# Altium schematic symbol library ESP_helper.SchLib: 19 symbols
Pins are listed as number, name and electrical type; pins without a type are passive.

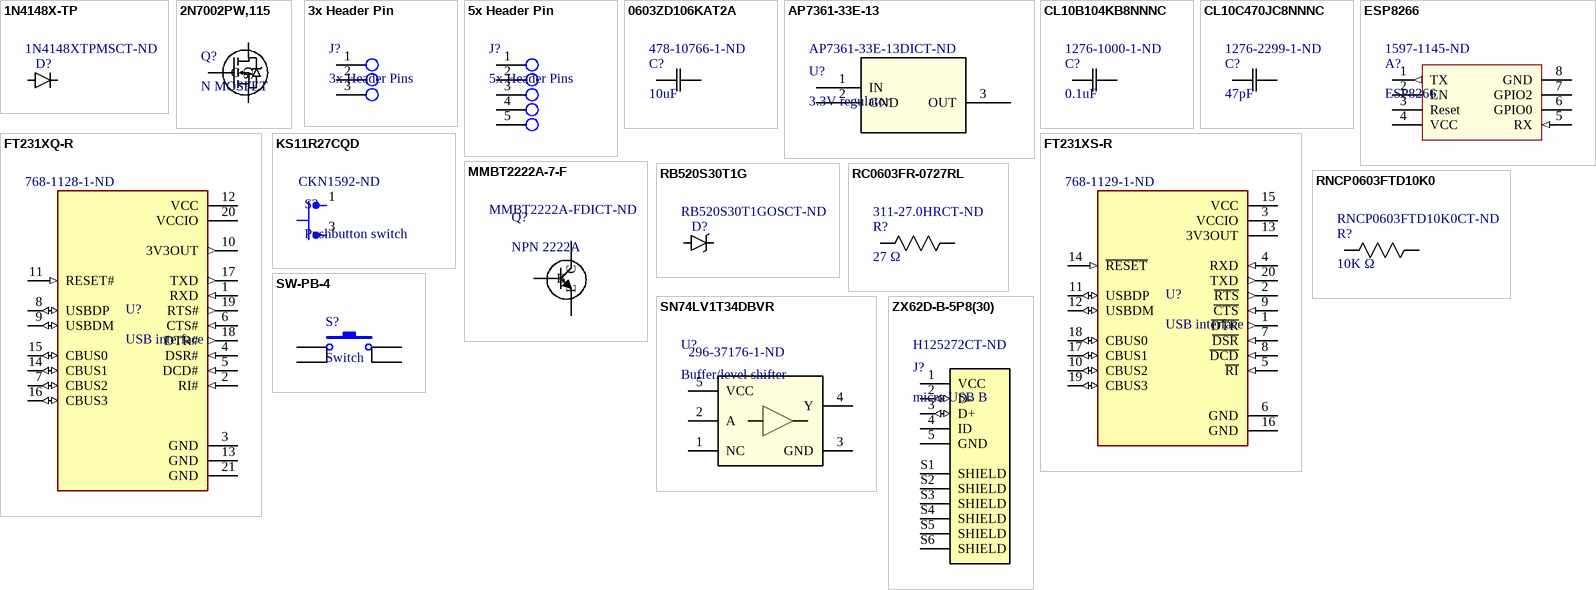
[diagram p0: symbols 1N4148X-TP to ZX62D-B-5P8(30)]

## 1N4148X-TP
designator D?, comment Supplier Part Number 1: 1N4148XTPMSCT-ND  (hidden comment: Diode)
DIODE GEN PURP 75V 150MA SOD523; MP: BAT20JFILM; MF: STMicroelectronics; Package: SOD-323 STMicroelectronics; SnapEDA_Link: https://www.snapeda.com/parts/BAT20JFILM/STMicroelectronics/view-part/110314/?ref=snap; Value: *; Availability: Unavailable; Price: None; Supplier 1: Digi-Key
footprint SOD-523
pins: A, C

## 2N7002PW,115
designator Q?, comment N MOSFET
MOSFET N-CH 60V 0.31A SOT323; Manufacturer_Part_Number: 2N7002,215; Vendor: NXP; Built_By: EMA_UL_Team; SourceLibrary: NXP_2011-01-01; Type: DEV; Copyright: Copyright (C) 2018 Accelerated Designs. All rights reserved; RefDes: RefDes; Supplier 1: Digi-Key; Supplier Part Number 1: 1727-4793-1-ND
footprint SOT-323
pins: 1 G, 2 S, 3 D

## 3x Header Pin
designator J?, comment 3x Header Pins
CONN HEADER VERT 5POS 2.54MM; Manufacturer_Part_Number: 77311-818-36LF; Vendor: Amphenol; Built_By: EMA_UL_Team; SourceLibrary: Amphenol_2013-08-06_Bergstik_1Row_77311; Copyright: Copyright (C) 2018 Accelerated Designs. All rights reserved; RefDes: RefDes; Type: DEV; Value: Value
footprint 3 HEADER PIN 90 DEG
pins: 1, 2, 3

## 5x Header Pin
designator J?, comment 5x Header Pins
CONN HEADER VERT 5POS 2.54MM; Manufacturer_Part_Number: 77311-818-36LF; Vendor: Amphenol; Built_By: EMA_UL_Team; SourceLibrary: Amphenol_2013-08-06_Bergstik_1Row_77311; Copyright: Copyright (C) 2018 Accelerated Designs. All rights reserved; RefDes: RefDes; Type: DEV; Value: Value
footprint 5 HEADER PIN
pins: 1, 2, 3, 4, 5

## 0603ZD106KAT2A
designator C?, comment 10uF  Supplier Part Number 1: 478-10766-1-ND
CAP CER 10UF 10V X5R 0603; Manufacturer_Part_Number: CC0805KRX7R9BB104; Vendor: Yageo; Built_By: EMA_UL_Team; Type: DEV; Copyright: Copyright (C) 2018 Accelerated Designs. All rights reserved; RefDes: RefDes; Value: Value; Supplier 1: Digi-Key
footprint 0603
pins: 1, 2

## AP7361-33E-13
designator U?, comment 3.3V regulator  Supplier Part Number 1: AP7361-33E-13DICT-ND
IC REG LINEAR 3.3V 1A SOT223; Manufacturer_Part_Number: AP7361-33E-13; Vendor: Diodes Inc; Built_By: EMA_UL_Team; SourceLibrary: DIODESINC_2_2015-08-18; Copyright: Copyright (C) 2018 Accelerated Designs. All rights reserved; RefDes: RefDes; Type: DEV; Supplier 1: Digi-Key
footprint SOT-223
pins: 1 IN (power), 2 GND (power), 3 OUT (power)

## CL10B104KB8NNNC
designator C?, comment 0.1uF  Supplier Part Number 1: 1276-1000-1-ND
CAP CER 0.1UF 50V X7R 0603; Manufacturer_Part_Number: CC0805KRX7R9BB104; Vendor: Yageo; Built_By: EMA_UL_Team; Type: DEV; Copyright: Copyright (C) 2018 Accelerated Designs. All rights reserved; RefDes: RefDes; Value: Value; Supplier 1: Digi-Key
footprint 0603
pins: 1, 2

## CL10C470JC8NNNC
designator C?, comment 47pF  Supplier Part Number 1: 1276-2299-1-ND
CAP CER 47PF 100V C0G/NP0 0603; Manufacturer_Part_Number: CC0805KRX7R9BB104; Vendor: Yageo; Built_By: EMA_UL_Team; Type: DEV; Copyright: Copyright (C) 2018 Accelerated Designs. All rights reserved; RefDes: RefDes; Value: Value; Supplier 1: Digi-Key
footprint 0603
pins: 1, 2

## ESP8266
designator A?  Supplier Part Number 1: 1597-1145-ND
RX TXRX MODULE WIFI TRACE ANT TH; Supplier 1: Digi-Key
footprint ESP8266
pins: 1 TX (out), 2 EN, 3 Reset, 4 VCC (power), 5 RX (in), 6 GPIO0, 7 GPIO2, 8 GND (power)

## FT231XQ-R
designator U?, comment USB interface  Supplier Part Number 1: 768-1128-1-ND
USB Bridge, USB to UART USB 2.0 UART Interface 20-QFN; MP: FT231XQ-R; MF: FTDI, Future; Availability: Unavailable; SnapEDA_Link: https://www.snapeda.com/parts/FT231XQ-R/FTDI%2C%20Future%20Technology%20Devices%20International%20Ltd/view-part/227070/?ref=snap; Value: *; Package: QFN-20 FTDI; Price: None; Supplier 1: Digi-Key
footprint QFN40
pins: 1 RXD (in), 2 RI# (in), 3 GND (power), 4 DSR# (in), 5 DCD# (in), 6 CTS# (in), 7 CBUS2 (io), 8 USBDP (io), 9 USBDM (io), 10 3V3OUT (out), 11 RESET# (in), 12 VCC (power), 13 GND (power), 14 CBUS1 (io), 15 CBUS0 (io), 16 CBUS3 (io), 17 TXD (out), 18 DTR# (out), 19 RTS# (out), 20 VCCIO (power), 21 GND (power)

## FT231XS-R
designator U?, comment USB interface  Supplier Part Number 1: 768-1129-1-ND
USB Bridge, USB to UART USB 2.0 UART Interface 20-SSOP; MP: FT231XS-R; MF: FTDI,; Price: None; Package: SSOP-20 FTDI; Value: *; Availability: Unavailable; SnapEDA_Link: https://www.snapeda.com/parts/FT231XS-R/FTDI%2C%20Future%20Technology%20Devices%20International%20Ltd/view-part/48872/?ref=snap; Supplier 1: Digi-Key
footprint 20-SSOP
pins: 1 ~{DTR} (out), 2 ~{RTS} (out), 3 VCCIO (power), 4 RXD (in), 5 ~{RI} (in), 6 GND (power), 7 ~{DSR} (in), 8 ~{DCD} (in), 9 ~{CTS} (in), 10 CBUS2 (io), 11 USBDP (io), 12 USBDM (io), 13 3V3OUT (power), 14 ~{RESET} (in), 15 VCC (power), 16 GND (power), 17 CBUS1 (io), 18 CBUS0 (io), 19 CBUS3 (io), 20 TXD (out)

## KS11R27CQD
designator S?, comment Pushbutton switch  Supplier Part Number 1: CKN1592-ND
SWITCH PUSH SPST-NO 0.025A 50V; MF: C&K; MP: KS11R21CQD; Package: None; Value: *; Digi-Key_Part_Number: CKN4078-ND; Digi-Key_Purchase_URL: https://www.digikey.com/product-detail/en/c-k/KS11R21CQD/CKN4078-ND/332668?utm_source=snapeda&utm_medium=aggregator&utm_campaign=symbol; SnapEDA_Link: https://www.snapeda.com/parts/KS11R21CQD/C%26K/view-part/288209/?ref=snap; Supplier 1: Digi-Key
footprint KS11R21
pins: 1, 3

## MMBT2222A-7-F
designator Q?, comment NPN 2222A  Supplier Part Number 1: MMBT2222A-FDICT-ND
TRANS NPN 40V 0.6A SMD SOT23-3; MF: Diodes Inc.; MP: MMBT2222A-7-F; Package: SOT-23-3 Diodes Inc.; Digi-Key_Purchase_URL: https://www.digikey.in/product-detail/en/diodes-incorporated/MMBT2222A-7-F/MMBT2222A-FDICT-ND/815723?utm_source=snapeda&utm_medium=aggregator&utm_campaign=symbol; Value: *; SnapEDA_Link: https://www.snapeda.com/parts/MMBT2222A-7-F/Diodes%20Inc./view-part/229424/?ref=snap; Digi-Key_Part_Number: MMBT2222A-FDICT-ND; Supplier 1: Digi-Key
footprint SOT-23-3
pins: 1 B, 2 E, 3 C

## RB520S30T1G
designator D?, comment Supplier Part Number 1: RB520S30T1GOSCT-ND  (hidden comment: Diode, Schottky)
DIODE SCHOTTKY 30V 200MA SOD523; MP: BAT20JFILM; MF: STMicroelectronics; Package: SOD-323 STMicroelectronics; SnapEDA_Link: https://www.snapeda.com/parts/BAT20JFILM/STMicroelectronics/view-part/110314/?ref=snap; Value: *; Availability: Unavailable; Price: None; Supplier 1: Digi-Key
footprint SOD-523
pins: A, C

## RC0603FR-0727RL
designator R?, comment 27 Ω  Supplier Part Number 1: 311-27.0HRCT-ND
RES SMD 27 OHM 1% 1/10W 0603; Manufacturer_Part_Number: RC0805FR-0710KL; Vendor: Yageo; Built_By: EMA_UL_Team; Copyright: Copyright (C) 2018 Accelerated Designs. All rights reserved; RefDes: RefDes; Type: DEV; Value: Value; Supplier 1: Digi-Key
footprint 0603
pins: 1, 2

## RNCP0603FTD10K0
designator R?, comment 10K Ω  Supplier Part Number 1: RNCP0603FTD10K0CT-ND
RES 10K OHM 1% 1/8W 0603; Manufacturer_Part_Number: RC0805FR-0710KL; Vendor: Yageo; Built_By: EMA_UL_Team; Copyright: Copyright (C) 2018 Accelerated Designs. All rights reserved; RefDes: RefDes; Type: DEV; Value: Value; Supplier 1: Digi-Key
footprint 0603
pins: 1, 2

## SN74LV1T34DBVR
designator U?, comment Buffer/level shifter  Supplier Part Number 1: 296-37176-1-ND
IC BUF NON-INVERT 5.5V SOT23-5; PartNumber: SN74LV1T34DBV; Manufacturer: Texas Instruments; PIN_COUNT: 5; SymbolVerison: 2014-09-28; PackageReference: DBV0005A; MountType: SMT; CompType: IC; RoHS: Y; RefDes: RefDes; Type: DEV; Value: Value; Copyright: Copyright (C) 2018 Accelerated Designs. All rights reserved; Supplier 1: Digi-Key
footprint SOT-23-5
pins: 1 NC, 2 A, 3 GND (power), 4 Y, 5 VCC (power)

## SW-PB-4
designator S?, comment Switch
KMR421GULCLFS; Published: 24-Mar-1999; LatestRevisionDate: 17-Jul-2002; LatestRevisionNote: Re-released for DXP Platform.; PackageReference: SPST-2; Publisher: Altium Limited; PackageDescription: Switch; 2 Leads; Supplier 1: Digi-Key; Supplier Part Number 1: CKN12152CT-ND
footprint SWITCH_SMD
pins: 1, 2, 3, 4

## ZX62D-B-5P8(30)
designator J?, comment micro USB B  Supplier Part Number 1: H125272CT-ND
CONN RCPT USB2.0 MICRO B SMD R/A; Manufacturer_Part_Number: ZX62D-B-5P8(30); SourceLibrary: Hirose_2020-02-14; Vendor: Hirose; Built_By: EMA_Colton; Copyright: Copyright (C) 2018 Accelerated Designs. All rights reserved; Datasheet: https://www.digikey.com/product-detail/en/hirose-electric-co-ltd/ZX62D-B-5P8-30/H125272TR-ND/5994738; RefDes: RefDes; Type: DEV; Supplier 1: Digi-Key
footprint Micro USB B (rev 2)
pins: 1 VCC (power), 2 D- (io), 3 D+ (io), 4 ID, 5 GND (power), S1 SHIELD, S2 SHIELD, S3 SHIELD, S4 SHIELD, S5 SHIELD, S6 SHIELD